# EAGLE library part 677006144321 (library WE_Stecker)
WR-COM Up Right Receptacle IEEE 1394 / Fire Wire, 6 pins=>Code : Con_I-O_COM_IEEE_677006144321 <http://katalog.we-online.de/media/images/eican/Con_I-O_COM_IEEE_677006144321_pf2.jpg> Details see: http://katalog.we-online.de/en/em/IEEE_1394_UP_RIGHT_RECEPTACLE/677006144321 Created 2014-07-09, Karrer Zheng 2014 (C) Würth Elektronik
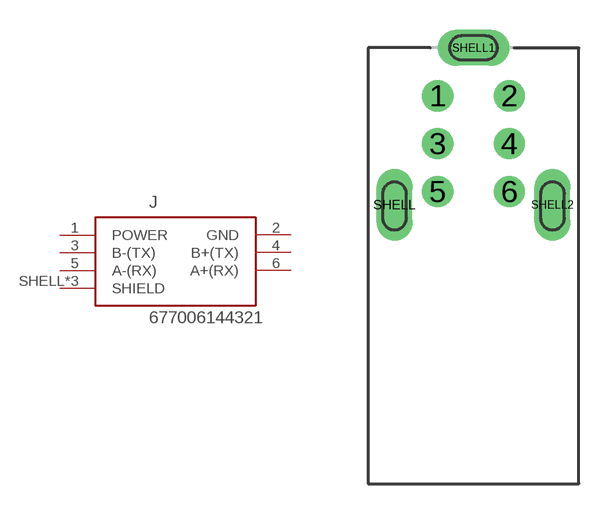
[diagram p71: symbol with the pads of 677006144321; footprint 677006144321]

Designator prefix J

## 677006144321  [677006144321]
1  POWER  pas
2  GND  pas
3  B-(TX)  pas
4  B+(TX)  pas
5  A-(RX)  pas
6  A+(RX)  pas
SHELL  SHIELD  pas
SHELL1  SHIELD  pas
SHELL2  SHIELD  pas

## Footprint 677006144321 (pad centres in mm)
WR-COM Up Right Receptacle IEEE 1394 / Fire Wire, 6 pins
drill 0.8: 1 -1.5,2; 2 1.5,2; 3 -1.5,0; 4 1.5,0; 5 -1.5,-2; 6 1.5,-2
drill 1 pad 1.5 long: SHELL -3.3,-2.55; SHELL1 0,4; SHELL2 3.3,-2.55